# Altium footprint library RESC3225X70N.PcbLib: 1 footprints
Each footprint in its own frame and in the unit in brackets; x right, y up, seen from the top. Pads: shape width x height; smd on the part's side, far side on the other; paste and mask are expansions set on the pad; w line width, h text height; cw(c..) or ccw(c..) is an arc to the next point about the centre after c.
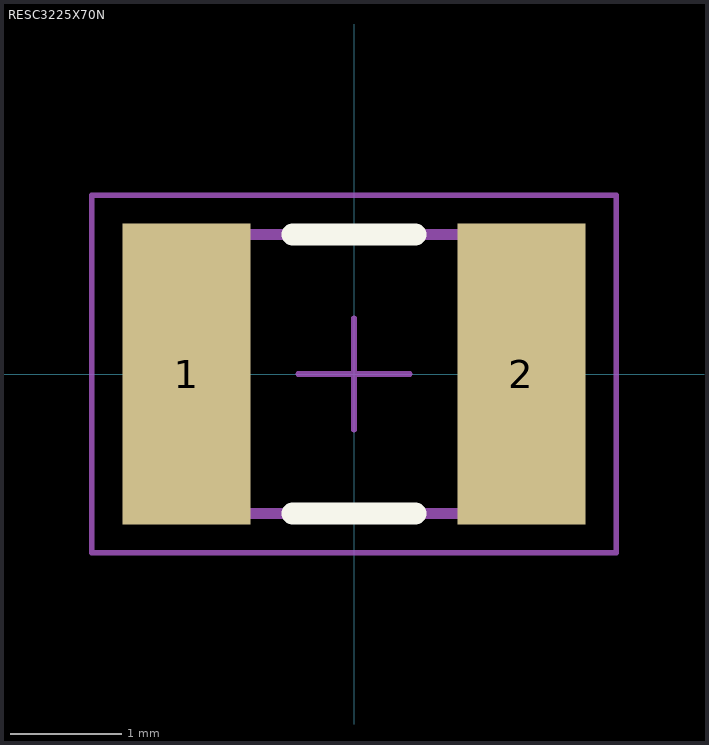
[diagram p0: the footprint, top view; thin cyan lines are the x and y axes]

## RESC3225X70N [mm] "Chip Resistor, EIA 1210, Metric 3225, Body 3.2x2.5mm, IPC Medium Density"
height 0.7
pads (2):
  rect 1.15x2.7 smd: 1(-1.5,0) 2(1.5,0)
Top Overlay:
  lines w0.2: -0.55,-1.25 0.55,-1.25 ; -0.55,1.25 0.55,1.25
Mechanical 14:
  lines w0.1: -1.6,-1.25 -1.6,1.25 1.6,1.25 1.6,-1.25 -1.6,-1.25
Mechanical 15:
  lines w0.05: -0.5,0 0.5,0 ; 0,-0.5 0,0.5 ; -2.35,-1.6 -2.35,1.6 2.35,1.6 2.35,-1.6 -2.35,-1.6
3D body "RESC3225X70N.stp": height 0.7, standoff 0, extent -1.7,-1.35 1.7,1.35